# Altium footprint library QUAN.PcbLib: 216 footprints (part 1 of 14)
Each footprint in its own frame and in the unit in brackets; x right, y up, seen from the top. Pads: shape width x height; smd on the part's side, far side on the other; paste and mask are expansions set on the pad; w line width, h text height; cw(c..) or ccw(c..) is an arc to the next point about the centre after c.
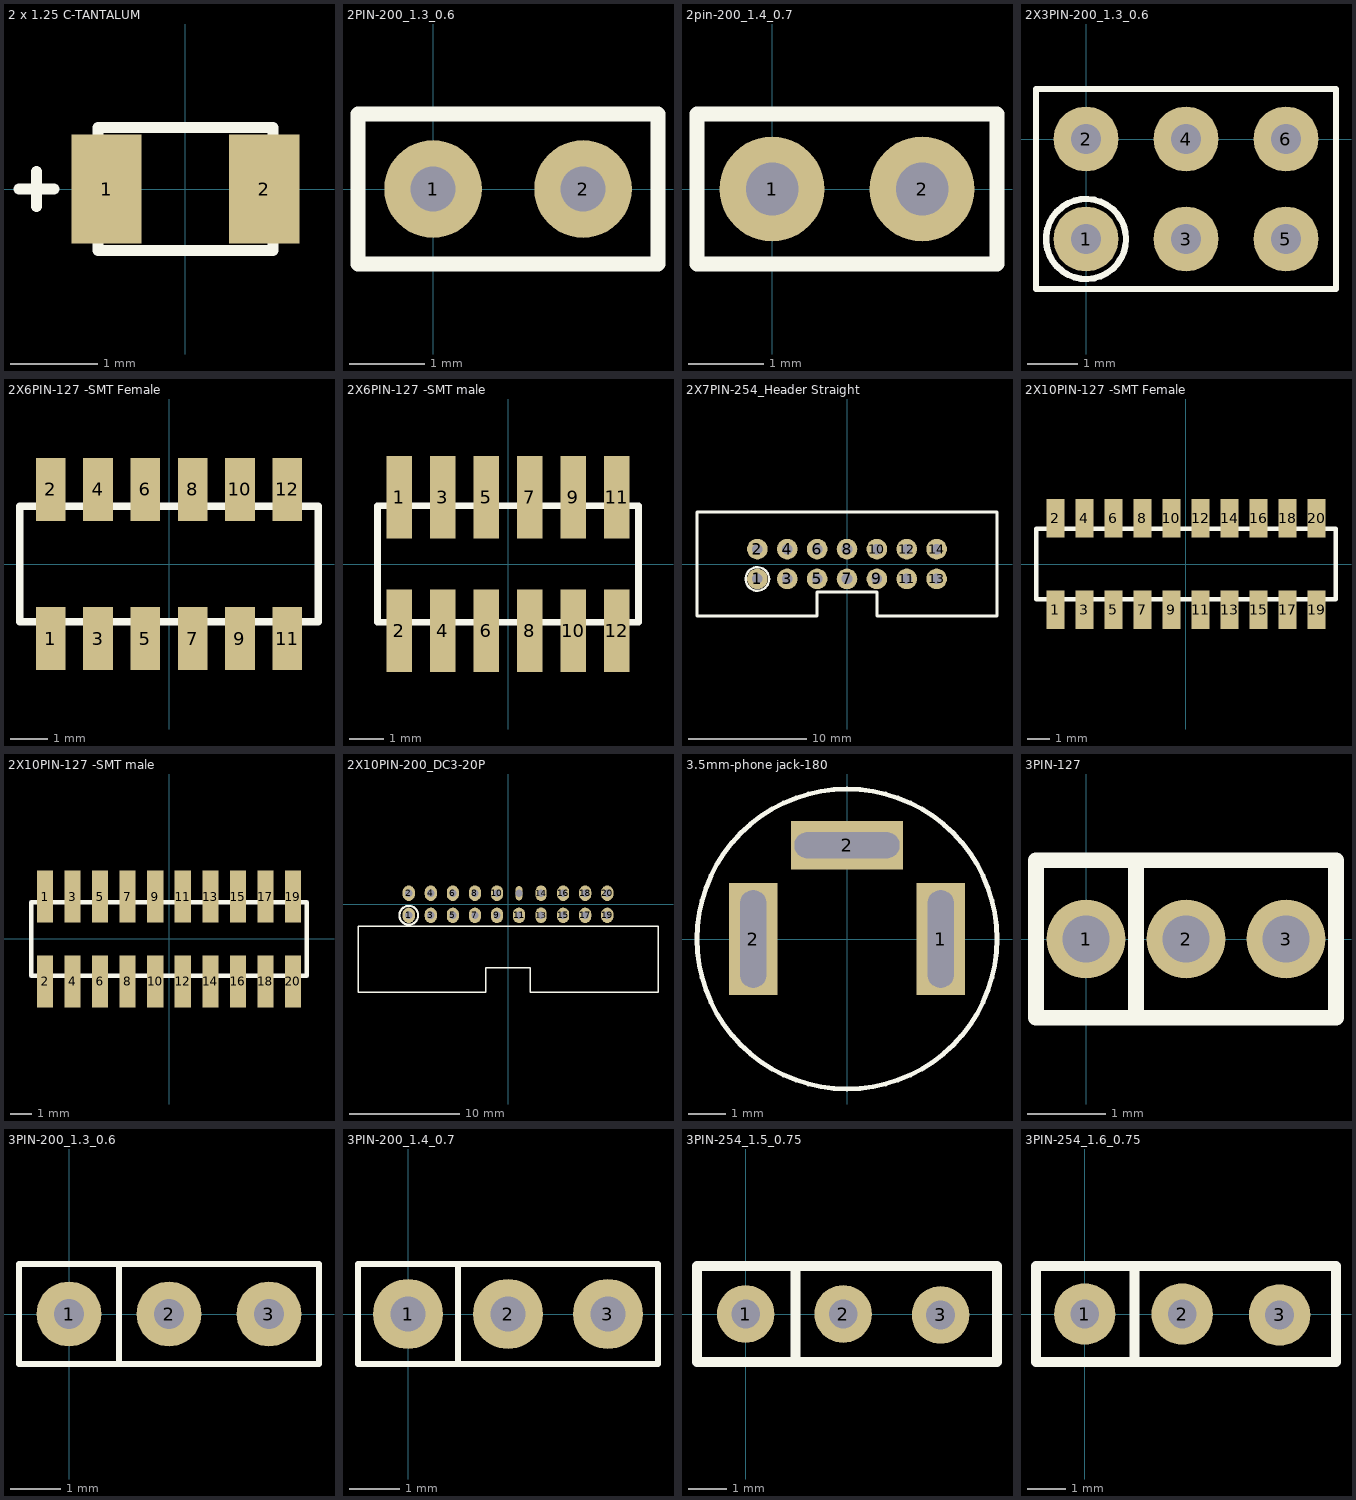
[diagram p0: the footprints below, top view; thin cyan lines are the x and y axes]

## 2 x 1.25 C-TANTALUM [mm] "2 x 1.25 C-TANTALUM"
pads (2):
  rect 0.8x1.25 smd: 1(-0.9,0) 2(0.9,0)
Top Overlay:
  lines w0.127: -1.9,0 -1.5,0 ; -1.7,-0.2 -1.7,0.2 ; -1,-0.7 -1,0.7 1,0.7 1,-0.7 -1,-0.7

## 2PIN-200_1.3_0.6 [mm]
pads (2):
  round 1.3 hole 0.6: 1(0,0) 2(2,0)
Top Overlay:
  lines w0.2: -1,-1 3,-1 3,1 -1,1 -1,-1
3D body "User Library-2-pinasm_asm.STEP": height 5.95, standoff -2.75, extent -1.01,-1.07 2.99,0.93

## 2pin-200_1.4_0.7 [mm]
pads (2):
  round 1.4 hole 0.7: 1(0,0) 2(2,0)
Top Overlay:
  lines w0.2: -1,-1 3,-1 3,1 -1,1 -1,-1
3D body "User Library-2-pinasm_asm.STEP": height 5.95, standoff -2.75, extent -1.01,-1.07 2.99,0.93

## 2X3PIN-200_1.3_0.6 [mm]
pads (6):
  round 1.3 hole 0.6: 1(0,-2) 2(0,0) 3(2,-2) 4(2,0) 5(4,-2) 6(4,0)
Top Overlay:
  circle w0.127: c0,-2 r0.8
  lines w0.127: -1,-3 -1,1 5,1 5,-3 -1,-3
3D body "User Library-2-pinasm_asm.STEP": height 5.95, standoff -2.75, extent -0.93,-3.01 1.07,0.99
3D body "User Library-2-pinasm_asm.STEP": height 5.95, standoff -2.75, extent 1.07,-3.01 3.07,0.99
3D body "User Library-2-pinasm_asm.STEP": height 5.95, standoff -2.75, extent 3.07,-3.01 5.07,0.99

## 2X6PIN-127 -SMT Female [mm] "2X6PIN-127 -SMT Female"
pads (12):
  rect 0.8x1.7 smd: 1(-3.175,-2) 2(-3.175,2) 3(-1.905,-2) 4(-1.905,2) 5(-0.635,-2) 6(-0.635,2) 7(0.635,-2) 8(0.635,2) 9(1.905,-2) 10(1.905,2) 11(3.175,-2) 12(3.175,2)
Top Overlay:
  lines w0.2: -4.01,-1.55 -4.01,1.55 4.01,1.55 4.01,-1.55 -4.01,-1.55

## 2X6PIN-127 -SMT male [mm] "2X6PIN-127 -SMT male"
pads (12):
  rect 0.74x2.4 smd: 1(-3.175,1.95) 2(-3.175,-1.95) 3(-1.905,1.95) 4(-1.905,-1.95) 5(-0.635,1.95) 6(-0.635,-1.95) 7(0.635,1.95) 8(0.635,-1.95) 9(1.905,1.95) 10(1.905,-1.95) 11(3.175,1.95) 12(3.175,-1.95)
Top Overlay:
  lines w0.2: -3.81,-1.7 -3.81,1.7 3.81,1.7 3.81,-1.7 -3.81,-1.7

## 2X7PIN-254_Header Straight [mm] "2X7PIN-254_Header Straight"
pads (14):
  round 1.75 hole 0.9: 1(-7.62,-1.27) 2(-7.62,1.27) 3(-5.08,-1.27) 4(-5.08,1.27) 5(-2.54,-1.27) 6(-2.54,1.27) 7(0,-1.27) 8(0,1.27) 9(2.54,-1.27) 10(2.54,1.27) 11(5.08,-1.27) 12(5.08,1.27) 13(7.62,-1.27) 14(7.62,1.27)
Top Overlay:
  circle w0.2: c-7.62,-1.27 r1
  lines w0.254: -2.54,-4.4 -12.75,-4.4 -12.75,4.4 12.75,4.4 12.75,-4.4 2.54,-4.4 ; -2.54,-4.37 -2.54,-2.37 2.54,-2.37 2.54,-4.39

## 2X10PIN-127 -SMT Female [mm] "2X10PIN-127 -SMT Female"
pads (20):
  rect 0.8x1.7 smd: 1(-5.715,-2) 2(-5.715,2) 3(-4.445,-2) 4(-4.445,2) 5(-3.175,-2) 6(-3.175,2) 7(-1.905,-2) 8(-1.905,2) 9(-0.635,-2) 10(-0.635,2) 11(0.635,-2) 12(0.635,2) 13(1.905,-2) 14(1.905,2) 15(3.175,-2) 16(3.175,2) 17(4.445,-2) 18(4.445,2) 19(5.715,-2) 20(5.715,2)
Top Overlay:
  lines w0.2: -6.55,-1.55 6.55,-1.55 6.55,1.55 -6.55,1.55 -6.55,-1.55

## 2X10PIN-127 -SMT male [mm] "2X10PIN-127 -SMT male"
pads (20):
  rect 0.74x2.4 smd: 1(-5.715,1.95) 2(-5.715,-1.95) 3(-4.445,1.95) 4(-4.445,-1.95) 5(-3.175,1.95) 6(-3.175,-1.95) 7(-1.905,1.95) 8(-1.905,-1.95) 9(-0.635,1.95) 10(-0.635,-1.95) 11(0.635,1.95) 12(0.635,-1.95) 13(1.905,1.95) 14(1.905,-1.95) 15(3.175,1.95) 16(3.175,-1.95) 17(4.445,1.95) 18(4.445,-1.95) 19(5.715,1.95) 20(5.715,-1.95)
Top Overlay:
  lines w0.2: -6.35,-1.7 6.35,-1.7 6.35,1.7 -6.35,1.7 -6.35,-1.7

## 2X10PIN-200_DC3-20P [mm] "2X10PIN-200_DC3-20P"
pads (20):
  oval 1.1x1.4 hole 0.65: 1(-9,-1) 2(-9,1) 3(-7,-1) 4(-7,1) 5(-5,-1) 6(-5,1) 7(-3,-1) 8(-3,1) 9(-1,-1) 10(-1,1) 11(1,-1) 15(5,-1) 16(5,1) 17(7,-1) 18(7,1) 19(9,-1) 20(9,1)
  oval 0.6x1.3 hole 0.65: 12(1,1)
  oval 1x1.4 hole 0.65: 13(3,-1) 14(3,1)
Top Overlay:
  circle w0.2: c-9,-1 r0.85
  lines w0.127: -13.6,-8 -13.6,-2 13.6,-2 13.6,-8 2,-8 2,-5.75 -2,-5.75 -2,-8 -13.6,-8

## 3.5mm-phone jack-180 [mm] "3.5mm-phone jack-180"
pads (3):
  rect 1.3x3 hole 0.7 slot 2.6 at 90 deg: 1(2.5,0) 2(-2.5,0)
  rect 3x1.3 hole 0.7 slot 2.8 at 0 deg: 2(0,2.5)
Top Overlay:
  circle w0.127: c0,0 r4

## 3PIN-127 [mm]
pads (3):
  round 1 hole 0.6: 1(0,0) 2(1.27,0) 3(2.54,0)
Top Overlay:
  lines w0.2: 0.635,-1 0.635,1 ; -0.635,-1 -0.635,1 3.175,1 3.175,-1 -0.635,-1
3D body "BD022-02-A-A-0210-0210-L-D.stp": height 3.6, standoff -2.1, extent 0.635,-1.25 3.175,1.25
3D body "BD022-02-A-A-0210-0210-L-D.stp": height 3.6, standoff -2.1, extent -0.635,-1.25 1.905,1.25

## 3PIN-200_1.3_0.6 [mm]
pads (3):
  round 1.3 hole 0.6: 1(0,0) 2(2,0) 3(4,0)
Top Overlay:
  lines w0.127: 1,-1 1,1 ; -1,-1 5,-1 5,1 -1,1 -1,-1
3D body "User Library-2-pinasm_asm.STEP": height 5.95, standoff -2.75, extent 0.99,-1.07 4.99,0.93
3D body "User Library-2-pinasm_asm.STEP": height 5.95, standoff -2.75, extent -1.01,-1.07 2.99,0.93

## 3PIN-200_1.4_0.7 [mm]
pads (3):
  round 1.4 hole 0.7: 1(0,0) 2(2,0) 3(4,0)
Top Overlay:
  lines w0.127: 1,-1 1,1 ; -1,-1 -1,1 5,1 5,-1 -1,-1
3D body "User Library-2-pinasm_asm.STEP": height 5.95, standoff -2.75, extent 1,-1 5,1
3D body "User Library-2-pinasm_asm.STEP": height 5.95, standoff -2.75, extent -1,-1 3,1

## 3PIN-254_1.5_0.75 [mm]
pads (3):
  round 1.5 hole 0.75: 1(0,0) 2(2.54,0) 3(5.08,-0.025)
Top Overlay:
  lines w0.254: 1.3,-1.25 1.3,1.25 ; -1.27,-1.25 6.55,-1.25 6.55,1.25 -1.27,1.25 -1.27,-1.25
3D body "User Library-Header Vertical 2_54mm Pitch2-1.STEP": height 5.94, standoff -2.94, extent 1.47,-1.25 6.55,1.29
3D body "User Library-Header Vertical 2_54mm Pitch2-1.STEP": height 5.94, standoff -2.94, extent -1.27,-1.25 3.81,1.29

## 3PIN-254_1.6_0.75 [mm]
pads (3):
  round 1.6 hole 0.75: 1(0,0) 2(2.54,0) 3(5.08,-0.025)
Top Overlay:
  lines w0.254: 1.3,-1.25 1.3,1.25 ; -1.27,-1.25 6.55,-1.25 6.55,1.25 -1.27,1.25 -1.27,-1.25
3D body "User Library-Header Vertical 2_54mm Pitch2-1.STEP": height 5.94, standoff -2.94, extent -1.27,-1.25 3.81,1.29
3D body "User Library-Header Vertical 2_54mm Pitch2-1.STEP": height 5.94, standoff -2.94, extent 1.47,-1.25 6.55,1.29